# Altium footprint library Footprints.PcbLib: 26 footprints (part 1 of 2)
Each footprint in its own frame and in the unit in brackets; x right, y up, seen from the top. Pads: shape width x height; smd on the part's side, far side on the other; paste and mask are expansions set on the pad; w line width, h text height; cw(c..) or ccw(c..) is an arc to the next point about the centre after c.
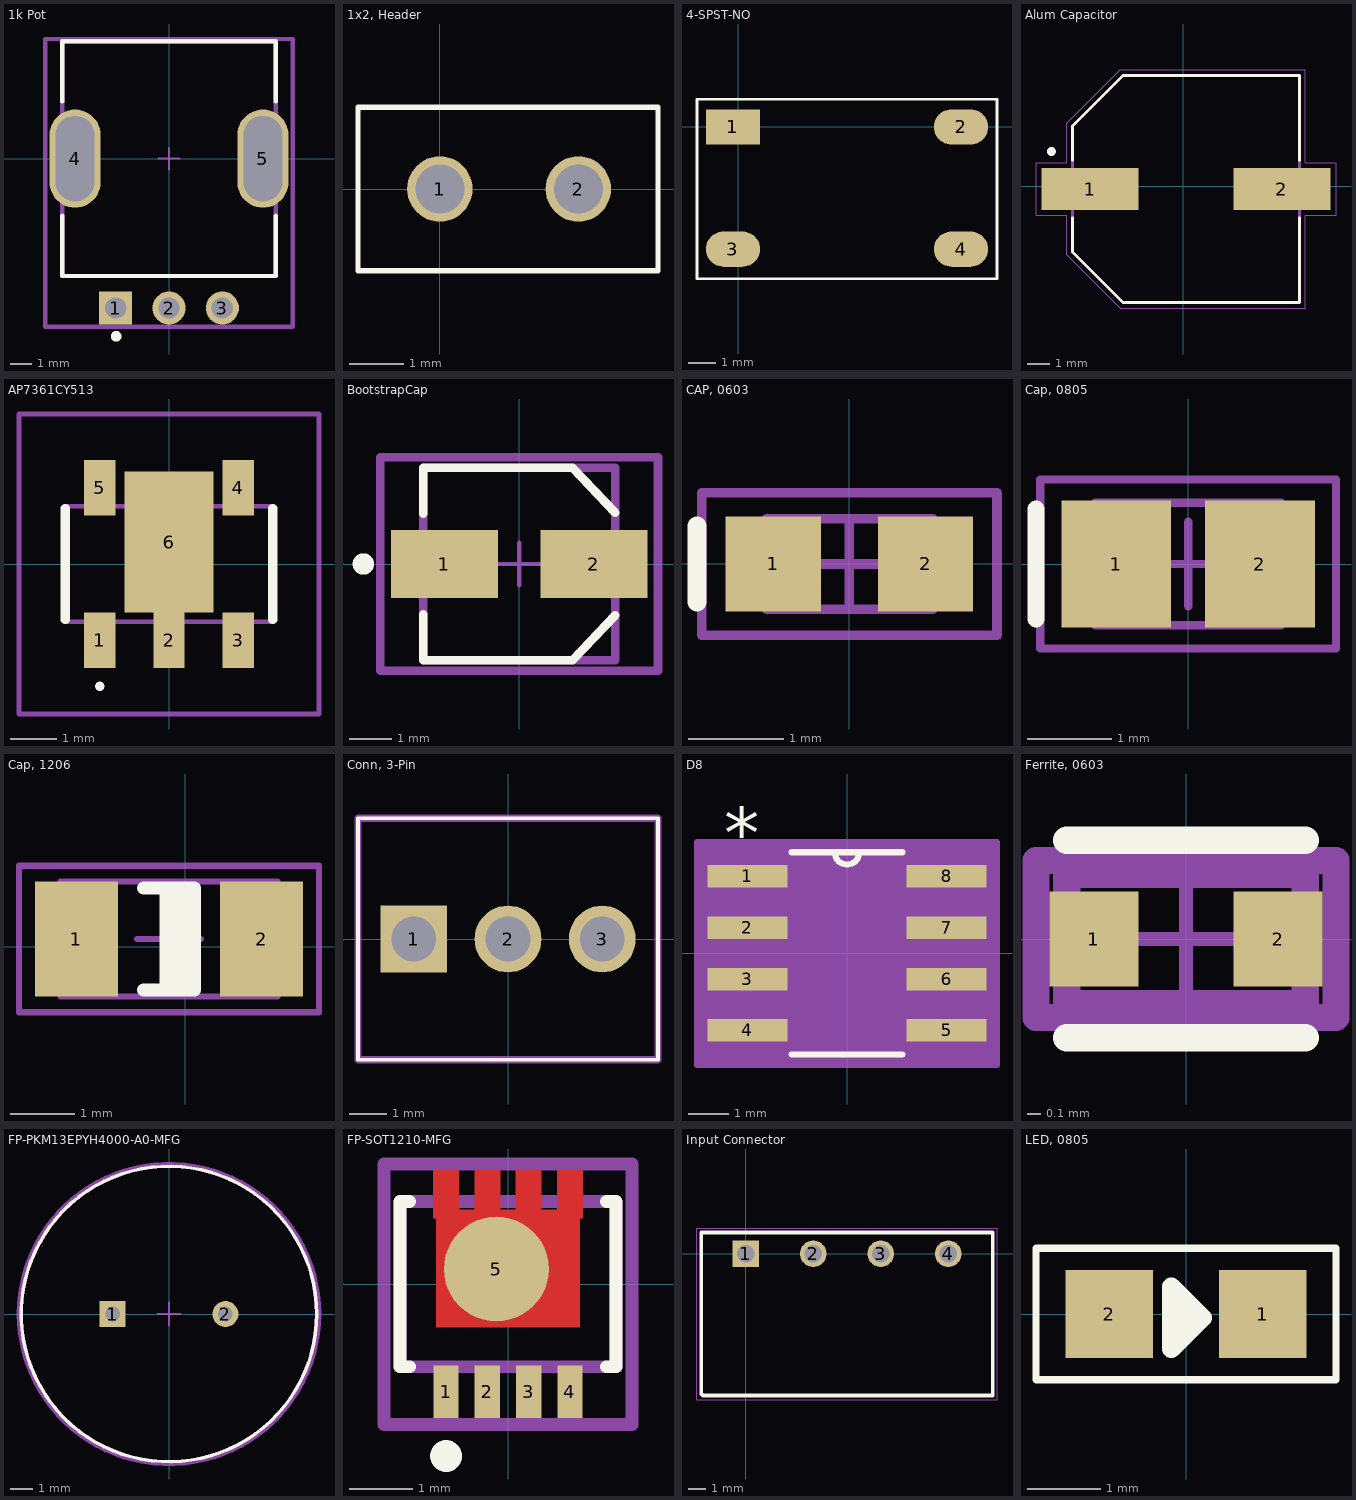
[diagram p0: the footprints below, top view; thin cyan lines are the x and y axes]

## 1k Pot [mm]
pads (5):
  rect 1.55x1.55 hole 1 paste-1000 mask+0: 1(-2.5,-7)
  round 1.55 hole 1 paste-1000 mask+0: 2(0,-7) 3(2.5,-7)
  rrect100% 2.4x4.6 hole 4 slot 1.8 at 0 deg paste-1000 mask+0: 4(-4.4,0) 5(4.4,0)
Top Overlay:
  circle w0.25: c-2.475,-8.325 r0.125
  lines w0.2: -5,-2.675 -5,-5.5 5,-5.5 5,-2.675 ; -5,2.675 -5,5.5 5,5.5 5,2.675
Top Assembly:
  lines w0.2: -5.8,-7.875 -5.8,5.6 5.8,5.6 5.8,-7.875 -5.8,-7.875
  text ".Designator" at 0,-1.138 h1
Top 3D Body:
  lines w0.2: -5,-5.5 -5,5.5 5,5.5 5,-5.5 -5,-5.5
Top Courtyard:
  lines w0.2: -5.8,-7.875 -5.8,5.6 5.8,5.6 5.8,-7.875 -5.8,-7.875
Top Component Center:
  lines w0.1: -0.5,0 0.5,0 ; 0,-0.5 0,0.5
3D body "Res_Bourns_PTV09A-4225F-B103_eec.STEP": height 0.25, standoff 0, extent -5.8,-7.875 5.8,5.6

## 1x2, Header [mm]
pads (2):
  round 1.2 hole 0.9: 1(0,0) 2(2.54,0)
Top Overlay:
  lines w0.1: -1.5,-1.5 -1.5,1.5 4,1.5 4,0.225 4,-1.5 -1.5,-1.5

## 4-SPST-NO [mm]
pads (4):
  rect 2x1.3 smd: 1(-0.2,0)
  oval 2x1.3 smd: 2(8.2,0) 3(-0.2,-4.5) 4(8.2,-4.5)
Top Overlay:
  lines w0.1: -1.524,-5.588 9.525,-5.588 9.525,1.016 -1.524,1.016 -1.524,-5.588
3D body "User Library-PTS645SL50SMTR92-LFS.STEP": height 5, standoff 0, extent -0.563,-5.286 8.437,0.714

## Alum Capacitor [mm]
pads (2):
  rect 4.4x1.9 smd: 1(-4.223,-0.127) 2(4.477,-0.127)
Top Overlay:
  circle w0.2: c-5.973,1.573 r0.1
  lines w0.127: -5.023,-1.427 -5.023,-2.977 -2.723,-5.277 5.277,-5.277 5.277,-1.427 ; -5.023,1.173 -5.023,2.723 -2.723,5.023 5.277,5.023 5.277,1.173
Top 3D Body:
  circle w0.2: c-5.973,1.573 r0.1
  lines w0.127: -5.023,-2.977 -2.723,-5.277 5.277,-5.277 5.277,5.023 -2.723,5.023 -5.023,2.723 -5.023,-2.977
Top Courtyard:
  lines w0.05: -6.673,-1.327 -5.273,-1.327 -5.273,-3.102 -2.848,-5.527 5.527,-5.527 5.527,-1.327 6.927,-1.327 6.927,1.073 5.527,1.073 5.527,5.273 -2.848,5.273 -5.273,2.848 -5.273,1.073 -6.673,1.073 -6.673,-1.327
3D body "25SVPF330M.STEP": height 12.6, standoff 0, extent -5.5,-5.15 5.5,5.15

## AP7361CY513 [mm]
pads (6):
  rect 0.68x1.2 smd: 1(-1.5,-1.65) 2(0,-1.65) 3(1.5,-1.65) 4(1.5,1.65) 5(-1.5,1.65)
  rect 1.93x3.05 smd: 6(0,0.475)
Top Overlay:
  lines w0.1: -1.5,-2.7 cw(c-1.5,-2.65) -1.5,-2.6 cw(c-1.5,-2.65) -1.5,-2.7
  lines w0.2: -2.25,-1.2 -2.25,1.2 ; 2.25,-1.2 2.25,1.2
Top Courtyard:
  lines w0.1: -2.25,-1.25 2.25,-1.25 2.25,1.25 -2.25,1.25 -2.25,-1.25
Bottom Assembly:
  lines w0.1: -3.25,-3.25 3.25,-3.25 3.25,3.25 -3.25,3.25 -3.25,-3.25

## BootstrapCap [mm]
pads (2):
  rect 2.5x1.6 smd paste+0 mask+0: 1(-1.75,0) 2(1.75,0)
Top Overlay:
  circle w0.25: c-3.65,0 r0.125
  lines w0.2: -2.25,-1.175 -2.25,-2.25 1.25,-2.25 2.25,-1.2 ; -2.25,1.175 -2.25,2.25 1.25,2.25 2.25,1.2
Top Assembly:
  lines w0.2: -3.25,-2.5 -3.25,2.5 3.25,2.5 3.25,-2.5 -3.25,-2.5
  text ".Designator" at 0,0.188 h1
Top 3D Body:
  lines w0.2: -2.25,-2.25 -2.25,2.25 2.25,2.25 2.25,-2.25 -2.25,-2.25
Top Courtyard:
  lines w0.2: -3.25,-2.5 -3.25,2.5 3.25,2.5 3.25,-2.5 -3.25,-2.5
Top Component Center:
  lines w0.1: -0.5,0 0.5,0 ; 0,-0.5 0,0.5
3D body "Cap_Panasonic_EEEFK1E100R_eec.STEP": height 0.25, standoff 0, extent -3.25,-2.5 3.25,2.5

## CAP, 0603 [mm] "Chip Capacitor, Body 1.6x0.8mm (0603\"), IPC Medium Density"
height 0.85
pads (2):
  rect 1x1 smd: 1(-0.8,0) 2(0.8,0)
Top Overlay:
  lines w0.2: -1.6,-0.4 -1.6,0.4
Top 3D Body:
  lines w0.1: -0.875,-0.475 0.875,-0.475 0.875,0.475 -0.875,0.475 -0.875,-0.475
  text ".Designator" at 0,0 h0.51
Top Courtyard:
  lines w0.1: -0.475,0 0.475,0 ; 0,-0.475 0,0.475 ; -1.55,-0.75 1.55,-0.75 1.55,0.75 -1.55,0.75 -1.55,-0.75
3D body "User Library-CAPC1608X09.step": height 0.9, standoff 0, extent -0.8,-0.4 0.8,0.4

## Cap, 0805 [mm]
pads (2):
  rect 1.3x1.5 smd: 1(-0.85,0) 2(0.85,0)
Top Overlay:
  lines w0.2: -1.8,-0.65 -1.8,0.65
Top 3D Body:
  lines w0.1: -1.1,-0.725 -1.1,0.725 1.1,0.725 1.1,-0.725 -1.1,-0.725
  text ".Designator" at -2.7,-0.5 h0.51
Top Courtyard:
  lines w0.1: -0.5,0 0.5,0 ; 0,-0.5 0,0.5 ; -1.75,-1 -1.75,1 1.75,1 1.75,-1 -1.75,-1
3D body "User Library-CAPC2013X10.step": height 1, standoff 0, extent -1,-0.625 1,0.625

## Cap, 1206 [mm]
pads (2):
  rect 1.3x1.8 smd: 1(-1.704,0.119) 2(1.196,0.119)
Top Overlay:
  region: 0.146,0.919 -0.404,0.919 -0.404,-0.681 0.146,-0.681
  lines w0.2: -0.654,-0.681 0.146,-0.681 0.146,0.919 -0.654,0.919
Top 3D Body:
  lines w0.1: -1.954,-0.781 -1.954,1.019 1.446,1.019 1.446,-0.781 -1.954,-0.781
  text ".Designator" at -5.454,-0.881 h1.02
Top Courtyard:
  lines w0.1: -0.754,0.119 0.246,0.119 ; -0.254,-0.381 -0.254,0.619 ; -2.604,-1.031 -2.604,1.269 2.096,1.269 2.096,-1.031 -2.604,-1.031
3D body "User Library-CAPC3216X10.STEP": height 1, standoff 0, extent -1.854,-0.681 1.346,0.919

## Conn, 3-Pin [mm]
pads (3):
  rect 1.8x1.8 hole 1.2: 1(-2.54,0)
  round 1.8 hole 1.2: 2(0,0) 3(2.54,0)
Top Overlay:
  lines w0.1: -4.04,-3.25 4.04,-3.25 4.04,3.25 -4.04,3.25 -4.04,-3.25
Top Courtyard:
  lines w0.2: -4.04,-3.25 4.04,-3.25 4.04,3.25 -4.04,3.25 -4.04,-3.25
3D body "282834-3.stp": height 10.05, standoff -3.35, extent -4.04,-3.198 4.04,3.302

## D8 [mil]
pads (8):
  rect 78x22 smd paste-39 mask-39: 1(-97,75) 2(-97,25) 3(-97,-25) 4(-97,-75) 5(97,-75) 6(97,-25) 7(97,25) 8(97,75)
Top Overlay:
  lines w6: -54.08,-98.5 54.08,-98.5 ; -54.08,98.5 54.08,98.5 ; -12,98.5 ccw(c0,98.5) 12,98.5
  text "*" at -119.5,92 h50
Top 3D Body:
  lines w0: -12,98.5 ccw(c0,98.5) 12,98.5
  lines w1: -122,-85 -122,-65 -78.5,-65 -78.5,-85 -122,-85 ; -122,-35 -122,-15 -78.5,-15 -78.5,-35 -122,-35 ; -122,15 -122,35 -78.5,35 -78.5,15 -122,15 ; -122,65 -122,85 -78.5,85 -78.5,65 -122,65 ; -78.5,-98.5 78.5,-98.5 78.5,98.5 -78.5,98.5 -78.5,-98.5 ; 78.5,-85 78.5,-65 122,-65 122,-85 78.5,-85 ; 78.5,-35 78.5,-15 122,-15 122,-35 78.5,-35 ; 78.5,15 78.5,35 122,35 122,15 78.5,15 ; 78.5,65 78.5,85 122,85 122,65 78.5,65
  text "*" at -119.5,92 h50
Top Courtyard:
  region: 146,-108.5 -146,-108.5 -146,108.5 146,108.5
  lines w6: -146,-108.5 -146,108.5 146,108.5 146,-108.5 -146,-108.5
3D body "D8.step": height 69.09, standoff 0, extent -122.01,-98.5 122.01,98.5

## Ferrite, 0603 [mm]
pads (2):
  rect 0.65x0.7 smd paste+0 mask+0: 1(-0.675,0) 2(0.675,0)
Top Overlay:
  lines w0.2: -0.875,-0.725 0.875,-0.725 ; -0.875,0.725 0.875,0.725
Top Assembly:
  lines w0.2: -1.1,-0.575 -1.1,0.575 1.1,0.575 1.1,-0.575 -1.1,-0.575
  text ".Designator" at 0,0.188 h1
Top 3D Body:
  lines w0.2: -0.875,-0.475 -0.875,0.475 0.875,0.475 0.875,-0.475 -0.875,-0.475
Top Courtyard:
  lines w0.2: -1.1,-0.575 -1.1,0.575 1.1,0.575 1.1,-0.575 -1.1,-0.575
Top Component Center:
  lines w0.1: -0.5,0 0.5,0 ; 0,-0.5 0,0.5
3D body "FBead_Murata_BLM18EG221SN1D_eec.STEP": height 0.25, standoff 0, extent -1.1,-0.575 1.1,0.575

## FP-PKM13EPYH4000-A0-MFG [mm]
pads (2):
  rect 1.15x1.15 hole 0.65 paste-1000 mask+0: 1(-2.5,0)
  round 1.15 hole 0.65 paste-1000 mask+0: 2(2.5,0)
Top Overlay:
  circle w0.15: c0,0 r6.55
Top Assembly:
  text ".Designator" at 0,-0.001 h1
Top 3D Body:
  circle w0.15: c0,0 r6.55
Top Courtyard:
  lines w0.2: -6.65,0 ccw(c0,0) 6.65,0 ccw(c0,0) -6.65,0
Top Component Center:
  lines w0.1: -0.5,0 0.5,0 ; 0,-0.5 0,0.5
3D body "Speak_Murata_PKM13EPYH4000-A0_eec.STEP": height 0.25, standoff 0, extent -6.65,-6.65 6.65,6.65

## FP-SOT1210-MFG [mm]
pads (5):
  rect 0.4x0.83 smd paste-1000 mask+0: 1(-0.975,-1.695) 2(-0.325,-1.695) 3(0.325,-1.695) 4(0.975,-1.695)
  round 1.652 smd paste-1000 mask+0: 5(-0.184,0.238)
Top Layer:
  region: 1.125,-0.68 -1.125,-0.68 -1.125,1.04 -1.175,1.04 -1.175,1.79 -0.775,1.79 -0.775,1.17 -0.525,1.17 -0.525,1.79 -0.125,1.79 -0.125,1.17 0.125,1.17 0.125,1.79 0.525,1.79 0.525,1.17 0.775,1.17 0.775,1.79 1.175,1.79 1.175,1.04 1.125,1.04
Top Overlay:
  circle w0.25: c-0.975,-2.705 r0.125
  lines w0.2: -1.55,-1.3 -1.7,-1.3 -1.7,1.3 -1.55,1.3 ; 1.55,-1.3 1.7,-1.3 1.7,1.3 1.55,1.3
Top Paste:
  rectangle: 0.825,1.04 1.125,1.79
  rectangle: 0.175,1.04 0.475,1.79
  rectangle: -0.475,1.04 -0.175,1.79
  rectangle: -1.125,1.04 -0.825,1.79
  rectangle: 0.309,-0.63 0.944,-0.12
  rectangle: -0.944,-0.63 -0.309,-0.12
  rectangle: 0.309,0.23 0.944,0.74
  rectangle: -0.944,0.23 -0.309,0.74
  rectangle: 0.825,-2.11 1.125,-1.28
  rectangle: 0.175,-2.11 0.475,-1.28
  rectangle: -0.475,-2.11 -0.175,-1.28
  rectangle: -1.125,-2.11 -0.825,-1.28
Top Assembly:
  lines w0.2: -1.95,-2.21 -1.95,1.89 1.95,1.89 1.95,-2.21 -1.95,-2.21
  text ".Designator" at 0,0.028 h1
Top 3D Body:
  lines w0.2: -1.7,-1.3 -1.7,1.3 1.7,1.3 1.7,-1.3 -1.7,-1.3
Top Courtyard:
  lines w0.2: -1.95,-2.21 -1.95,1.89 1.95,1.89 1.95,-2.21 -1.95,-2.21
Top Component Center:
  lines w0.1: -0.5,0 0.5,0 ; 0,-0.5 0,0.5
3D body "Trans_Nexperia_PSMN6R1-25MLDX_eec.STEP": height 0.25, standoff 0, extent -1.95,-2.21 1.95,1.89

## Input Connector [mm]
pads (4):
  rect 1.5x1.5 / inner round 1.5 / far side rect 1.5x1.5 hole 1: 1(0,0)
  round 1.5 hole 1: 2(3.81,0) 3(7.62,0) 4(11.43,0)
Top Overlay:
  lines w0.2: -2.5,0 -2.5,1.2 13.93,1.2 13.93,-8 0,-8
  lines w0.203: -2.5,0 -2.5,-7.914 -2.414,-8 0,-8
Top Courtyard:
  lines w0.1: -2.5,-8 -2.5,1.2 13.93,1.2 13.93,-8 -2.5,-8
Bottom Assembly:
  lines w0.05: -2.75,-8.25 -2.75,1.45 14.18,1.45 14.18,-8.25 -2.75,-8.25

## LED, 0805 [mm]
pads (2):
  rect 1.2x1.2 smd: 1(1.05,0) 2(-1.05,0)
Top Overlay:
  lines w0.1: -2.05,-0.9 -2.05,0.3 -2.05,0.9 2.05,0.9 2.05,-0.9 -2.05,-0.9
  lines w0.254: -0.05,-0.225 -0.05,0.225 -0.2,0.375 ; -0.2,0.375 -0.2,0.375 ; -0.2,0.375 0.225,-0.05 ; -0.2,0.375 -0.2,-0.475 0.225,-0.05 ; 0.225,-0.05 0.225,-0.05